# Altium footprint library Industrial Connectors Aliexpress.PcbLib: 7 footprints
Each footprint in its own frame and in the unit in brackets; x right, y up, seen from the top. Pads: shape width x height; smd on the part's side, far side on the other; paste and mask are expansions set on the pad; w line width, h text height; cw(c..) or ccw(c..) is an arc to the next point about the centre after c.
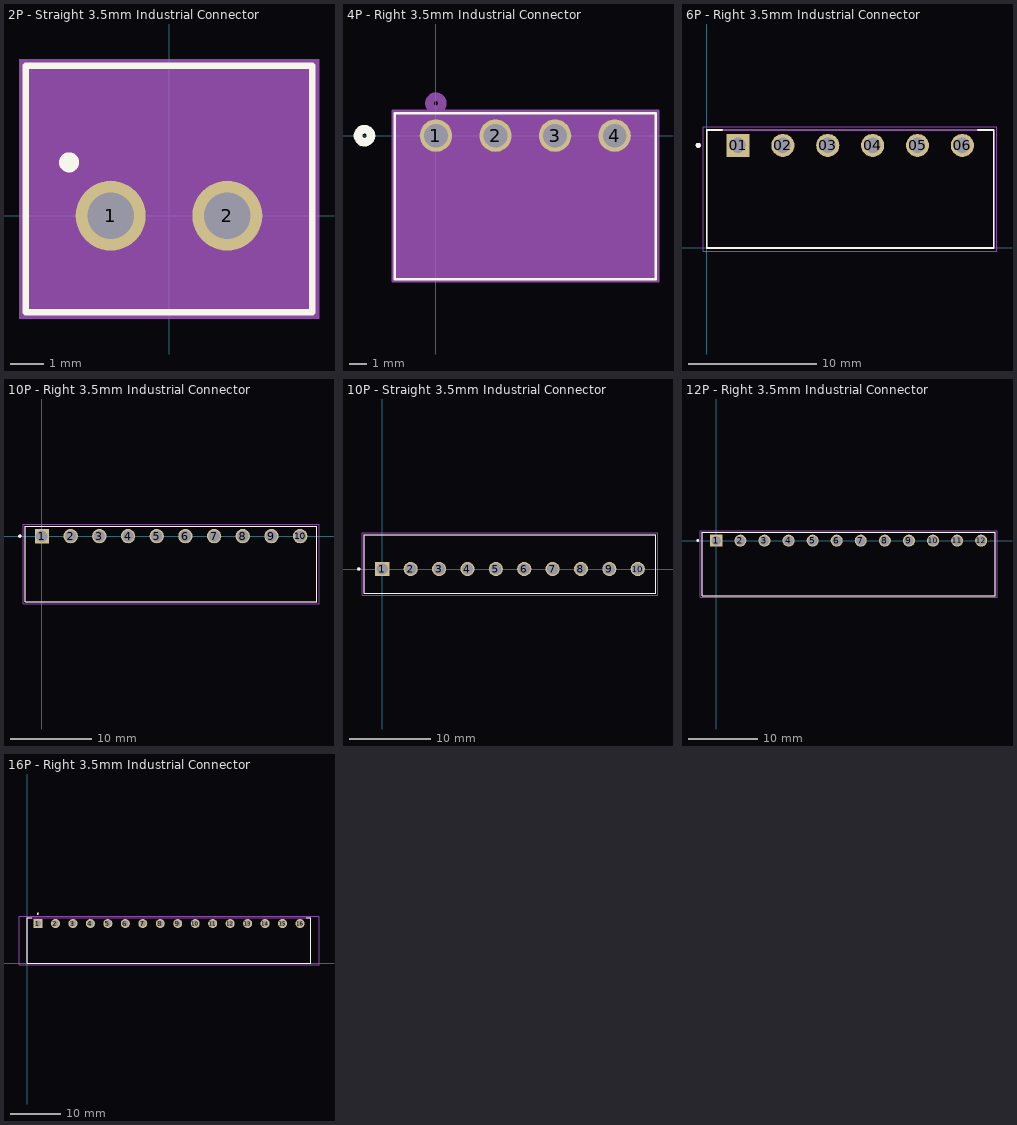
[diagram p0: the footprints below, top view; thin cyan lines are the x and y axes]

## 2P - Straight 3.5mm Industrial Connector [mm]
pads (2):
  round 2.1 hole 1.4: 1(-1.75,0) 2(1.75,0)
Top Overlay:
  circle w0.4: c-3,1.6 r0.1
  lines w0.2: -4.3,-2.9 -4.3,4.5 4.3,4.5 4.3,-2.9 -4.3,-2.9
Mechanical 13:
  lines w0.1: -4.2,-2.8 4.2,-2.8 4.2,4.4 -4.2,4.4 -4.2,-2.8
Mechanical 15:
  region: 4.5,-3.1 -4.5,-3.1 -4.5,4.7 4.5,4.7
3D body "691321100002.stp": height 9.68, standoff -3.02, extent -4.2,-2.711 4.2,4.488

## 4P - Right 3.5mm Industrial Connector [mil]
pads (4):
  round 75 / inner round 60 / far side round 75 hole 55 paste-99999 mask+0: 1(0,0) 2(137.8,0) 3(275.59,0) 4(413.39,0)
Top Overlay:
  circle w20: c-165.31,0 r15
  lines w6: -95.31,-331.76 508.69,-331.76 508.69,52.24 -95.31,52.24 -95.31,-331.76
Bottom Overlay:
  circle w20: c-165.31,0 r15
Mechanical 13:
  circle w20: c0,75 r15
  lines w1: -90.31,-326.76 503.69,-326.76 503.69,47.24 -90.31,47.24 -90.31,-326.76
Mechanical 15:
  region: 513.69,57.24 -100.31,57.24 -100.31,-336.76 513.69,-336.76
  lines w6: -100.31,-336.76 -100.31,57.24 513.69,57.24 513.69,-336.76 -100.31,-336.76
3D body "c-2350514-4-1-3d.stp": height 273.62, standoff -135.83, extent -80.4,-317 494.4,45.2

## 6P - Right 3.5mm Industrial Connector [mm]
pads (6):
  rect 1.8x1.8 / inner round 1.8 / far side rect 1.8x1.8 hole 1.2: 01(2.45,8)
  round 1.8 hole 1.2: 02(5.95,8) 03(9.45,8) 04(12.95,8) 05(16.45,8) 06(19.95,8)
Top Overlay:
  circle w0.2: c-0.65,8 r0.1
  lines w0.127: 1.23,9.2 0,9.2 0,0 22.4,0 22.4,9.2 21.17,9.2
Mechanical 13:
  circle w0.2: c-0.65,8 r0.1
  lines w0.127: 0,0 22.4,0 22.4,9.2 0,9.2 0,0
Mechanical 15:
  lines w0.05: -0.25,-0.25 22.65,-0.25 22.65,9.45 -0.25,9.45 -0.25,-0.25
3D body "1844252.step": height 7.4, standoff -3.4, extent 0,-0.028 22.4,9.172

## 10P - Right 3.5mm Industrial Connector [mm]
pads (10):
  rect 1.75x1.75 hole 1.4: 1(0,0)
  round 1.75 hole 1.4: 2(3.5,0) 3(7,0) 4(10.5,0) 5(14,0) 6(17.5,0) 7(21,0) 8(24.5,0) 9(28,0) 10(31.5,0)
Top Overlay:
  circle w0.2: c-2.7,0 r0.1
  lines w0.127: -2.05,-8 33.55,-8 33.55,1.2 -2.05,1.2 -2.05,-8
Mechanical 13:
  circle w0.2: c-2.7,0 r0.1
  lines w0.127: -2.05,-8 33.55,-8 ; -2.05,-8 33.55,-8 ; -2.05,-8 -2.05,1.2 33.55,1.2 33.55,-8
Mechanical 15:
  lines w0.05: -2.3,-8.25 33.8,-8.25 33.8,1.45 -2.3,1.45 -2.3,-8.25
3D body "1-2350514-0--3DModel-STEP-1.STEP": height 6.95, standoff -3.45, extent -1.97,-8.08 33.63,1.12

## 10P - Straight 3.5mm Industrial Connector [mm] "10 Pin"
pads (10):
  rect 1.75x1.75 hole 1.4: 1(0,0)
  round 1.75 hole 1.4: 2(3.5,0) 3(7,0) 4(10.5,0) 5(14,0) 6(17.5,0) 7(21,0) 8(24.5,0) 9(28,0) 10(31.5,0)
Top Overlay:
  circle w0.2: c-2.9,0 r0.1
  lines w0.127: -2.25,-3 33.75,-3 33.75,4.25 -2.25,4.25 -2.25,-3
Mechanical 13:
  circle w0.2: c-2.9,0 r0.1
  lines w0.127: -2.25,-3 -2.25,4.25 ; -2.25,-3 33.75,-3 ; -2.25,-3 -2.25,4.25 ; -2.25,4.25 33.75,4.25 ; -2.25,4.25 33.75,4.25 ; 33.75,-3 33.75,4.25 ; 33.75,-3 33.75,4.25
Mechanical 15:
  lines w0.05: -2.5,-3.25 34,-3.25 34,4.5 -2.5,4.5 -2.5,-3.25
3D body "1-2342071-0--3DModel-STEP-1.STEP": height 9, standoff -2.1, extent -2.303,-3.07 33.697,4.18

## 12P - Right 3.5mm Industrial Connector [mm] "12 Pin"
pads (12):
  rect 1.75x1.75 hole 1.4: 1(0,0)
  round 1.75 hole 1.4: 2(3.5,0) 3(7,0) 4(10.5,0) 5(14,0) 6(17.5,0) 7(21,0) 8(24.5,0) 9(28,0) 10(31.5,0) 11(35,0) 12(38.5,0)
Top Overlay:
  circle w0.2: c-2.7,0 r0.1
  lines w0.127: -2.05,-8 -2.05,1.2 40.55,1.2 40.55,-8 -2.05,-8
Mechanical 13:
  circle w0.2: c-2.7,0 r0.1
  lines w0.127: -2.05,-8 -2.05,1.2 40.55,1.2 40.55,-8 ; -2.05,-8 40.55,-8 ; -2.05,-8 40.55,-8
Mechanical 15:
  lines w0.05: -2.3,-8.25 -2.3,1.45 40.8,1.45 40.8,-8.25 -2.3,-8.25
3D body "1-2350514-2--3DModel-STEP-1.STEP": height 6.95, standoff -3.45, extent -2.062,-8.026 40.538,1.174

## 16P - Right 3.5mm Industrial Connector [mm]
pads (16):
  rect 1.8x1.8 / inner round 1.8 / far side rect 1.8x1.8 hole 1.2: 1(2.15,8)
  round 1.8 hole 1.2: 2(5.65,8) 3(9.15,8) 4(12.65,8) 5(16.15,8) 6(19.65,8) 7(23.15,8) 8(26.65,8) 9(30.15,8) 10(33.65,8) 11(37.15,8) 12(40.65,8) 13(44.15,8) 14(47.65,8) 15(51.15,8) 16(54.65,8)
Top Overlay:
  circle w0.2: c2.15,9.95 r0.1
  lines w0.127: 0.93,9.2 0,9.2 0,0 56.8,0 56.8,9.2 55.87,9.2
Mechanical 13:
  circle w0.2: c2.15,9.95 r0.1
  lines w0.127: 0,0 0,9.2 56.8,9.2 56.8,0 0,0
Mechanical 15:
  lines w0.05: -1.65,-0.25 58.45,-0.25 58.45,9.45 -1.65,9.45 -1.65,-0.25
3D body "1731811.stp": height 7.25, standoff -3.4, extent -1.397,-0.028 58.203,9.172